# Altium footprint library GR3115.PcbLib: 1 footprints
Each footprint in its own frame and in the unit in brackets; x right, y up, seen from the top. Pads: shape width x height; smd on the part's side, far side on the other; paste and mask are expansions set on the pad; w line width, h text height; cw(c..) or ccw(c..) is an arc to the next point about the centre after c.
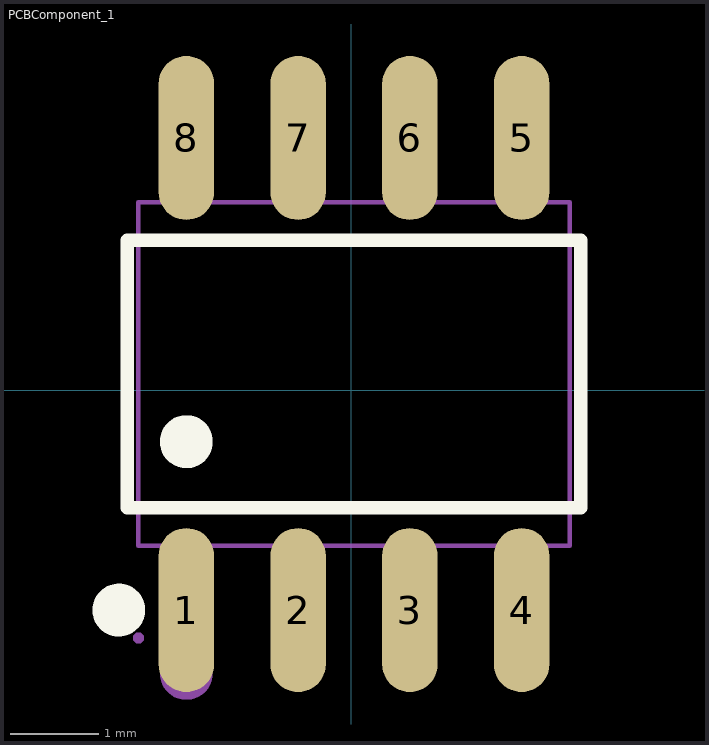
[diagram p0: the footprint, top view; thin cyan lines are the x and y axes]

## PCBComponent_1 [mm]
pads (8):
  oval 0.63x1.865 smd paste+0 mask+0.051: 1(-1.877,-2.497) 2(-0.607,-2.497) 3(0.663,-2.497) 4(1.933,-2.497) 5(1.933,2.868) 6(0.663,2.868) 7(-0.607,2.868) 8(-1.877,2.868)
Top Overlay:
  circle w0.3: c-2.644,-2.497 r0.15
  circle w0.3: c-1.877,-0.583 r0.15
  lines w0.152: -2.548,-1.335 2.605,-1.335 2.605,1.707 -2.548,1.707 -2.548,-1.335
Mechanical 6:
  circle w0.3: c-1.877,-3.214 r0.15
Mechanical 15:
  region: -2.087,-2.814 -2.087,-1.979 -1.667,-1.979 -1.667,-2.814
  region: -2.087,-1.989 -2.087,-1.754 -1.667,-1.754 -1.667,-1.989
  region: -0.817,-2.814 -0.817,-1.979 -0.397,-1.979 -0.397,-2.814
  region: -0.817,-1.989 -0.817,-1.754 -0.397,-1.754 -0.397,-1.989
  region: 0.453,-2.814 0.453,-1.979 0.873,-1.979 0.873,-2.814
  region: 0.453,-1.989 0.453,-1.754 0.873,-1.754 0.873,-1.989
  region: 1.723,-2.814 1.723,-1.979 2.143,-1.979 2.143,-2.814
  region: 1.723,-1.989 1.723,-1.754 2.143,-1.754 2.143,-1.989
  region: -2.087,2.351 -2.087,3.186 -1.667,3.186 -1.667,2.351
  region: -2.087,2.126 -2.087,2.361 -1.667,2.361 -1.667,2.126
  region: -0.817,2.351 -0.817,3.186 -0.397,3.186 -0.397,2.351
  region: -0.817,2.126 -0.817,2.361 -0.397,2.361 -0.397,2.126
  region: 0.453,2.351 0.453,3.186 0.873,3.186 0.873,2.351
  region: 0.453,2.126 0.453,2.361 0.873,2.361 0.873,2.126
  region: 1.723,2.351 1.723,3.186 2.143,3.186 2.143,2.351
  region: 1.723,2.126 1.723,2.361 2.143,2.361 2.143,2.126
  region: -2.362,-2.814 -2.362,-2.79 -2.397,-2.755 -2.446,-2.755 -2.481,-2.79 -2.482,-2.814 -2.481,-2.839 -2.446,-2.873 -2.397,-2.873 -2.362,-2.838 -2.362,-2.814
  lines w0.051: -2.422,-1.764 2.478,-1.764 2.478,2.136 -2.422,2.136 -2.422,-1.764